# Altium footprint library 28Pins_Project_V1I1.PcbLib: 26 footprints (part 1 of 2)
Each footprint in its own frame and in the unit in brackets; x right, y up, seen from the top. Pads: shape width x height; smd on the part's side, far side on the other; paste and mask are expansions set on the pad; w line width, h text height; cw(c..) or ccw(c..) is an arc to the next point about the centre after c.
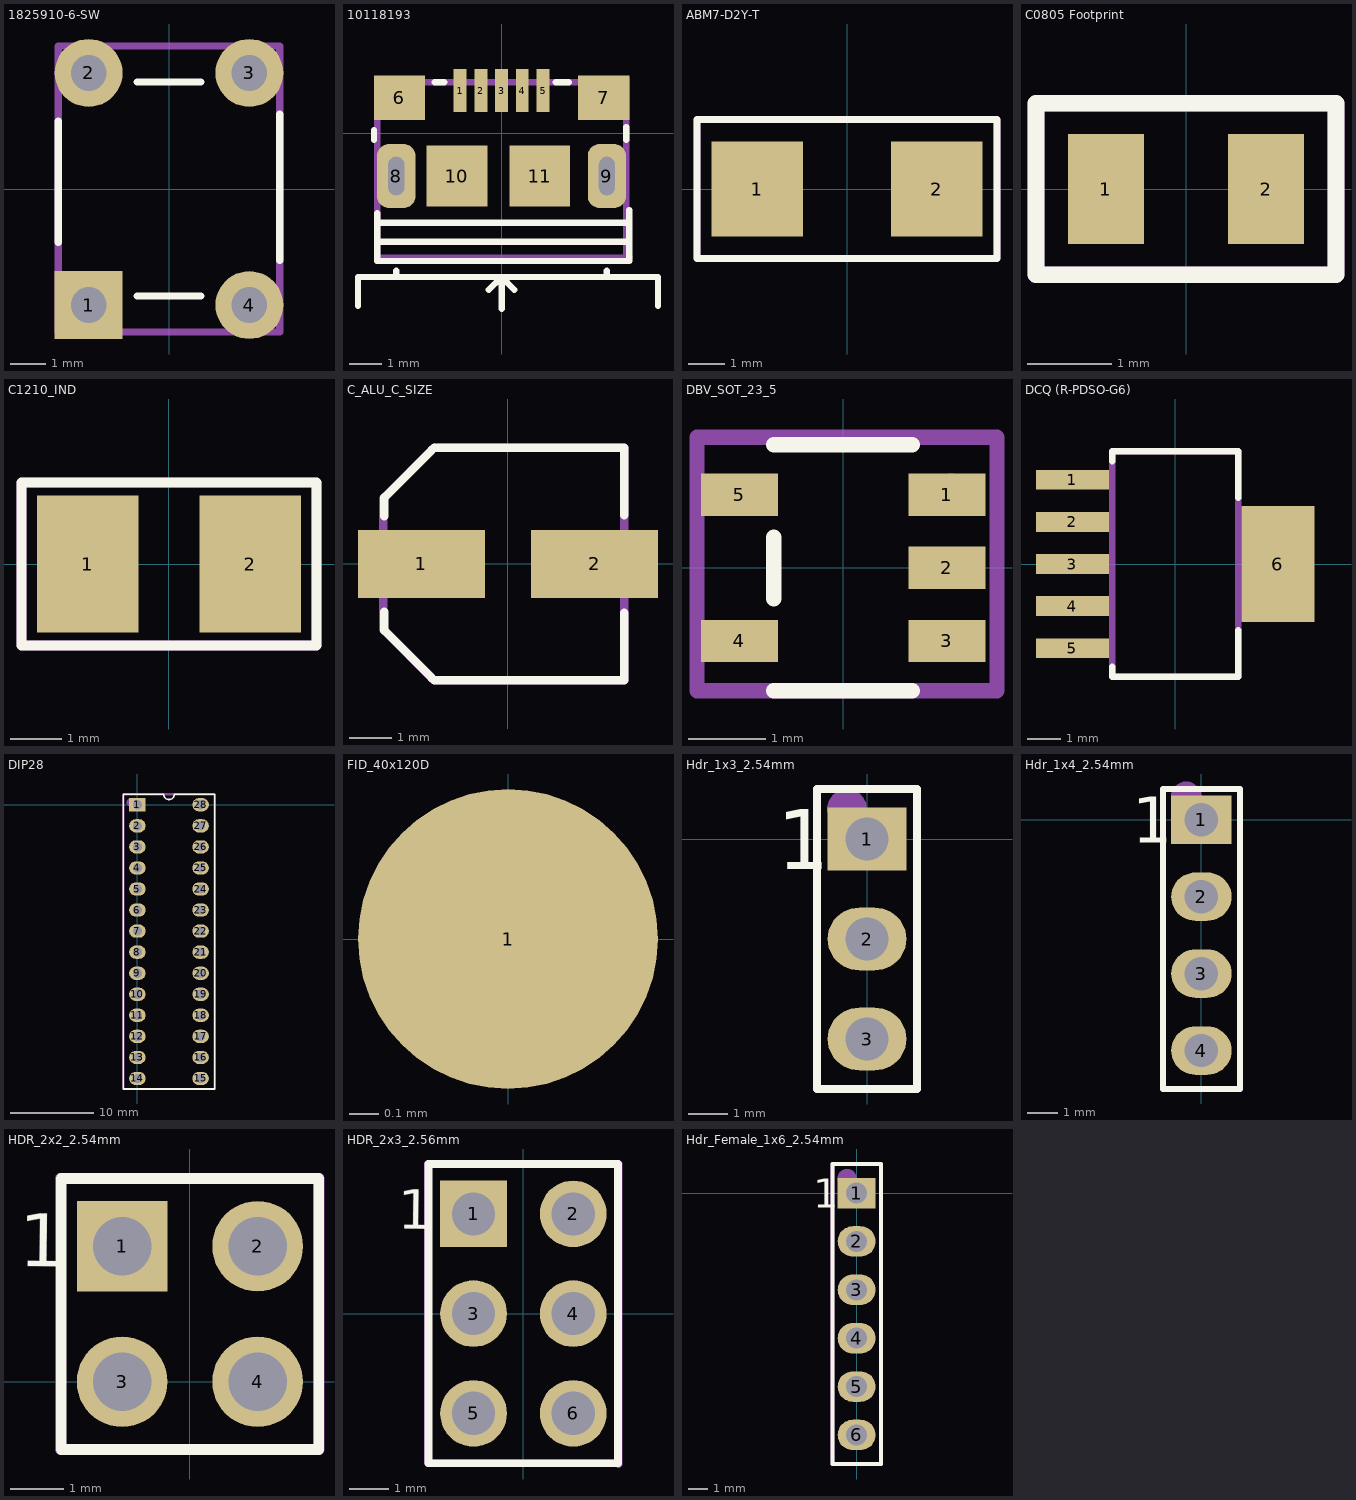
[diagram p0: the footprints below, top view; thin cyan lines are the x and y axes]

## 28_DIP_7.62mm_SOCKET [mm]
3D body "dil_socket.stp": height 4.2, standoff -3.17, extent -1.34,-34.26 8.76,1.24

## 1825910-6-SW [mm]
pads (4):
  rect 1.9x1.9 hole 1: 1(-2.25,-3.25)
  round 1.9 hole 1: 2(-2.25,3.25) 3(2.25,3.25) 4(2.25,-3.25)
Top Overlay:
  lines w0.2: -3.1,-1.5 -3.1,1.9 ; -0.9,-3 0.9,-3 ; -0.9,3 0.9,3 ; 3.1,-2 3.1,2.1
Mechanical 29:
  lines w0.2: -3.1,-4 -2.8,-4 3.1,-4 3.1,4 -3.1,4 -3.1,-3.7 -3.1,-4
  text ".Designator" at -0.162,-1.646 h1.52
3D body "User Library-FSM4JLH(1825910-5).step": height 5, standoff -3.51, extent -2.995,-3.898 2.995,3.9

## 10118193 [mm]
pads (11):
  rect 0.4x1.35 smd mask+0.05: 1(-1.3,1.338) 2(-0.65,1.338) 3(0,1.338) 4(0.65,1.338) 5(1.3,1.338)
  rect 1.6x1.4 smd: 6(-3.2,1.112) 7(3.2,1.112)
  rrect60% 1.2x2 hole 0.5 slot 1.2 at 90 deg: 8(-3.3,-1.338) 9(3.3,-1.338)
  rect 1.9x1.9 smd: 10(-1.4,-1.338) 11(1.2,-1.338)
Top Overlay:
  lines w0.2: -4.5,-5.4 -4.5,-4.5 4.9,-4.5 4.9,-5.4 ; -4,-0.2 -4,0.1 ; -3.9,-2.5 -3.9,-4 4,-4 4,-2.4 ; -3.8,-3.4 4,-3.4 ; -3.8,-2.8 4,-2.8 ; -3.3,-4.5 -3.3,-4.3 ; -2.1,1.6 -1.8,1.6 ; -0.4,-4.9 0,-4.5 ; 0,-5.5 0,-4.5 ; 0.4,-4.9 0,-4.5 ; 1.7,1.6 2.1,1.6 ; 3.3,-4.4 3.3,-4.3 ; 3.9,-0.2 3.9,0.2
Mechanical 29:
  lines w0.2: -3.9,-4 -3.8,-3.9 4,-3.9 3.9,-3.8 3.9,1.7 3.8,1.6 -3.9,1.6 -3.9,-4
  text ".Designator" at -1.146,-1.338 h1.52
3D body "10118193-0001lfc.stp": height 2.87, standoff -0.73, extent -3.9,-4 3.957,1.66

## ABM7-D2Y-T [mm]
pads (2):
  rect 2.5x2.6 smd: 1(-2.45,0) 2(2.45,0)
Top Overlay:
  lines w0.2: -4.1,-1.9 -4.1,1.9 4.1,1.9 4.1,-1.9 -4.1,-1.9
Mechanical 29:
  lines w0.2: -4.1,1.9 -4.1,-1.9 4.1,-1.9 4.1,1.9 ; -4,1.9 4,1.9
  text ".Designator" at -1.146,-0.638 h1.52
3D body "ABM7.STEP": height 1.41, standoff 0.01, extent -2.997,-1.753 2.997,1.753

## C0805 Footprint [mm]
pads (2):
  rect 0.9x1.3 smd: 1(-0.95,0) 2(0.95,0)
Top Overlay:
  lines w0.2: -1.778,-1.016 -1.778,1.016 1.778,1.016 1.778,-1.016 -1.778,-1.016
Mechanical 29:
  lines w0.2: -1.778,-1.016 1.778,-1.016 1.778,1.016 -1.778,1.016 -1.778,-1.016
  text ".Designator" at 0.916,-0.462 h0.6
3D body "CAPC2012X95N EIA 0805.step": height 0.96, standoff 0.01, extent -1,-0.6 1,0.6
3D body "CAPC2012X95N EIA 0805.step": height 1.46, standoff 0.51, extent -1,-0.6 1,0.6

## C1210_IND [mm]
pads (2):
  rect 2x2.7 smd: 1(-1.6,0) 2(1.6,0)
Top Overlay:
  lines w0.2: -2.9,-1.6 2.9,-1.6 2.9,1.6 -2.9,1.6 -2.9,-1.6
Mechanical 29:
  lines w0.2: -2.9,-1.6 -2.9,1.6 2.9,1.6 2.9,-1.6 2.8,-1.6 -2.9,-1.6
  text ".Designator" at -1,-0.333 h0.5
3D body "L1210R2R2MDWIT.stp": height 2.71, standoff 0.01, extent -1.7,-1.35 1.7,1.35

## C_ALU_C_SIZE [mm]
pads (2):
  rect 3x1.6 smd: 1(-2.05,0) 2(2.05,0)
Top Overlay:
  lines w0.2: -2.925,-1.125 -2.925,-1.575 -1.8,-2.7 ; -2.925,1.125 -2.925,1.575 -1.8,2.7 ; -1.75,-2.75 2.75,-2.75 2.75,-1.15 ; -1.75,2.75 2.75,2.75 2.75,1.15 ; -1.8,-2.7 -1.8,-2.7 ; -1.8,2.7 -1.8,2.7
Mechanical 29:
  lines w0.2: -2.95,1.55 -2.95,-1.55 -1.75,-2.75 -1.7,-2.75 2.75,-2.75 2.75,2.75 -1.65,2.75 ; -2.9,1.6 -1.75,2.75
  text ".Designator" at -1.396,-0.438 h1.52
3D body "User Library-capacitor size C.step": height 5.41, standoff -0.01, extent -2.95,-2.7 2.95,2.6

## DBV_SOT_23_5 [mm]
pads (5):
  rect 1x0.55 smd: 1(1.35,0.95) 2(1.35,0) 3(1.35,-0.95) 4(-1.35,-0.95) 5(-1.35,0.95)
Top Overlay:
  lines w0.2: -0.9,-1.6 0.9,-1.6 ; -0.9,-0.4 -0.9,0.4 ; -0.9,1.6 0.9,1.6
Mechanical 29:
  circle w0.254: c1.4,1 r0.1
  lines w0.2: -1.9,1.7 -1.9,-1.6 2,-1.6 2,1.7 -1.9,1.7 ; -1.9,1.7 -1.9,1.7
  text ".Designator" at 1.1,-0.4 h0.5
3D body "SN74AHC1G09DBVR.stp": height 1.11, standoff -0.09, extent -1.4,-1.45 1.4,1.45

## DCQ (R-PDSO-G6) [mm]
pads (6):
  rect 2.2x0.6 smd: 1(-3.1,2.54) 2(-3.1,1.27) 3(-3.1,0) 4(-3.1,-1.27) 5(-3.1,-2.54)
  rect 2.2x3.5 smd: 6(3.1,0)
Top Overlay:
  lines w0.2: -1.9,-3.1 -1.9,-3.4 1.9,-3.4 1.9,-2.7 ; -1.9,3.1 -1.9,3.4 1.8,3.4 1.9,3.4 1.9,2 ; 1.9,-2.8 1.9,-2
Mechanical 29:
  lines w0.2: -1.9,-3.4 -1.9,3.4 1.9,3.4 1.9,-3.4 -1.9,-3.4
  text ".Designator" at -0.546,-0.438 h1.52
3D body "User Library-TPS73701DCQ (1).step": height 1.71, standoff -0.09, extent -3.63,-3.275 3.63,3.275

## DIP28 [mm]
pads (28):
  rect 2x1.6 hole 1.1: 1(0,0)
  oval 2x1.6 hole 1.1: 2(0,-2.54) 3(0,-5.08) 4(0,-7.62) 5(0,-10.16) 6(0,-12.7) 7(0,-15.24) 8(0,-17.78) 9(0,-20.32) 10(0,-22.86) 11(0,-25.4) 12(0,-27.94) 13(0,-30.48) 14(0,-33.02) 15(7.62,-33.02) 16(7.62,-30.48) 17(7.62,-27.94) 18(7.62,-25.4) 19(7.62,-22.86) 20(7.62,-20.32) 21(7.62,-17.78) 22(7.62,-15.24) 23(7.62,-12.7) 24(7.62,-10.16) 25(7.62,-7.62) 26(7.62,-5.08) 27(7.62,-2.54) 28(7.62,0)
Top Overlay:
  lines w0.2: -1.69,-7.985 -1.69,-5.693 -1.69,-1.108 -1.69,1.185 ; -1.69,-7.62 -1.69,-25.4 -1.69,-34.29 9.31,-34.29 9.31,-24.9 9.31,-7.12 9.31,1.27 4.445,1.27 cw(c3.81,1.27) 3.175,1.27 ; -1.69,1.27 3.15,1.27
Mechanical 29:
  circle w0.8: c-0.8,0.3 r0.1
  lines w0.254: -1.69,-34.29 9.31,-34.29 9.31,1.27 -1.69,1.27 -1.69,-34.29
  text ".Designator" at 4.548,-21.756 h1.52
3D body "User Library-DIP28.STEP": height 8.07, standoff -0.31, extent -0.1,-34.035 7.72,1.015

## FID_40x120D [mil]
pads (1):
  round 40 smd paste-40 mask+40: 1(0,0)

## Hdr_1x3_2.54mm [mm]
pads (3):
  rect 2x1.6 hole 1.1: 1(0,0)
  oval 2x1.6 hole 1.1: 2(0,-2.54) 3(0,-5.08)
Top Overlay:
  lines w0.2: -0.508,-6.35 -1.27,-6.35 -1.27,1.27 1.27,1.27 1.27,-6.35 0.635,-6.35 ; -0.5,-6.346 0.6,-6.346
  text "1" at -2.286,-0.762 h1.52
Mechanical 29:
  circle w0.5: c-0.508,0.762 r0.254
  lines w0.2: -1.27,-6.35 1.27,-6.35 1.27,1.27 -1.27,1.27 -1.27,-6.35
  text ".Designator" at 0.169,-4.826 h1.02
3D body "HDR_1x3_White.stp": height 8.39, standoff -3.11, extent -1.21,-6.11 1.2,1.11

## Hdr_1x4_2.54mm [mm]
pads (4):
  rect 2x1.6 hole 1.1: 1(0,0)
  oval 2x1.6 hole 1.1: 2(0,-2.54) 3(0,-5.08) 4(0,-7.62)
Top Overlay:
  lines w0.2: -1.27,-8.89 -1.27,1.016 1.27,1.016 1.27,-8.89 0.635,-8.89 0.254,-8.89 -0.318,-8.89 -0.508,-8.89 -1.27,-8.89
  text "1" at -2.286,-0.762 h1.52
Mechanical 29:
  circle w0.5: c-0.508,0.762 r0.254
  lines w0.2: -1.27,-8.89 -1.27,1.016 1.27,1.016 1.27,-8.89 -1.27,-8.89
  text ".Designator" at 0.169,-7.366 h1.02
3D body "HDR_1x4_White.stp": height 8.39, standoff -3.11, extent -1.205,-8.8 1.205,0.96

## HDR_2x2_2.54mm [mm]
pads (4):
  rect 1.7x1.7 hole 1.1: 1(-1.27,2.54)
  round 1.7 hole 1.1: 2(1.27,2.54) 3(-1.27,0) 4(1.27,0)
Top Overlay:
  lines w0.2: 2.375,3.81 -2.413,3.81 -2.413,-1.27 2.413,-1.27 2.413,3.81
  text "1" at -3.203,2.161 h1
Mechanical 29:
  lines w0.2: -2.43,3.81 2.42,3.81 2.42,-1.27 -2.426,-1.27 -2.426,3.8
  text ".Designator" at 1.191,-0.508 h1
3D body "961204-6404-AR.stp": height 8, standoff -3.3, extent -2.5,-1.27 2.5,3.81

## HDR_2x3_2.56mm [mm]
pads (6):
  rect 1.7x1.7 hole 1.1: 1(-1.27,2.54)
  round 1.7 hole 1.1: 2(1.27,2.54) 3(-1.27,0) 4(1.27,0) 5(-1.27,-2.54) 6(1.27,-2.54)
Top Overlay:
  lines w0.2: 2.375,3.81 -2.413,3.81 -2.413,-3.81 2.413,-3.81 2.413,3.81
  text "1" at -3.203,2.161 h1
Mechanical 29:
  lines w0.2: -2.43,3.81 2.42,3.81 2.42,-3.83 ; -2.426,3.8 -2.426,-3.797 -2.413,-3.81 2.4,-3.81
  text ".Designator" at 1.033,-1.716 h1
3D body "961206-6404-AR.stp": height 11.3, standoff -3.3, extent -2.487,-3.81 2.513,3.81

## Hdr_Female_1x6_2.54mm [mm]
pads (6):
  rect 2x1.6 hole 1.1: 1(0,0)
  oval 2x1.6 hole 1.1: 2(0,-2.54) 3(0,-5.08) 4(0,-7.62) 5(0,-10.16) 6(0,-12.7)
Top Overlay:
  lines w0.2: -1.27,-14.224 -1.27,1.524 1.27,1.524 1.27,-14.224 0.635,-14.224 0.318,-14.224 -0.318,-14.224 -0.508,-14.224 -1.27,-14.224
  text "1" at -2.286,-0.762 h1.52
Mechanical 29:
  circle w0.5: c-0.508,0.762 r0.254
  lines w0.2: -1.27,-14.224 -1.27,1.524 1.27,1.524 1.27,-14.224 -1.27,-14.224
  text ".Designator" at 0.423,-11.43 h1.02
3D body "M20-7820646_asm.stp": height 8.31, standoff -3.19, extent -1.23,-14.17 1.27,1.47